# Altium schematic symbol library PAN1322-SPP.SchLib: 1 symbol
Pins are listed as number, name and electrical type; pins without a type are passive.

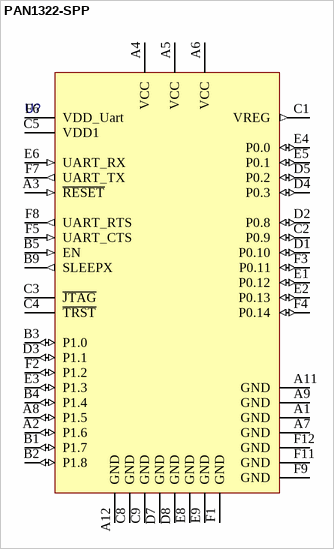
[diagram p0: symbol PAN1322-SPP]

## PAN1322-SPP
designator U?
pins: A1 GND (power), A2 P1.6 (io), A3 ~{RESET} (in), A4 VCC, A5 VCC, A6 VCC (power), A7 GND (power), A8 P1.5 (io), A9 GND (power), A11 GND (power), A12 GND (power), B1 P1.7 (io), B2 P1.8 (io), B3 P1.0 (io), B4 P1.4 (io), B5 EN (in), B9 SLEEPX (out), C1 VREG (out), C2 P0.9 (io), C3 ~{JTAG}, C4 ~{TRST}, C5 VDD1 (power), C8 GND (power), C9 GND (power), D1 P0.10 (io), D2 P0.8 (io), D3 P1.1 (io), D4 P0.3 (io), D5 P0.2 (io), D7 GND (power), D8 GND (power), E1 P0.12 (io), E2 P0.13 (io), E3 P1.3 (io), E4 P0.0 (io), E5 P0.1 (io), E6 UART_RX (in), E8 GND (power), E9 GND (power), F1 GND (power), F2 P1.2 (io), F3 P0.11 (io), F4 P0.14 (io), F5 UART_CTS (in), F6 VDD_Uart (power), F7 UART_TX (out), F8 UART_RTS (out), F9 GND (power), F11 GND (power), F12 GND (power)